# EAGLE library part WT21-N (library sf-bluegiga)
Class 1 Bluetooth HCI module - Bluetooth 2.1 + EDR, RF pins
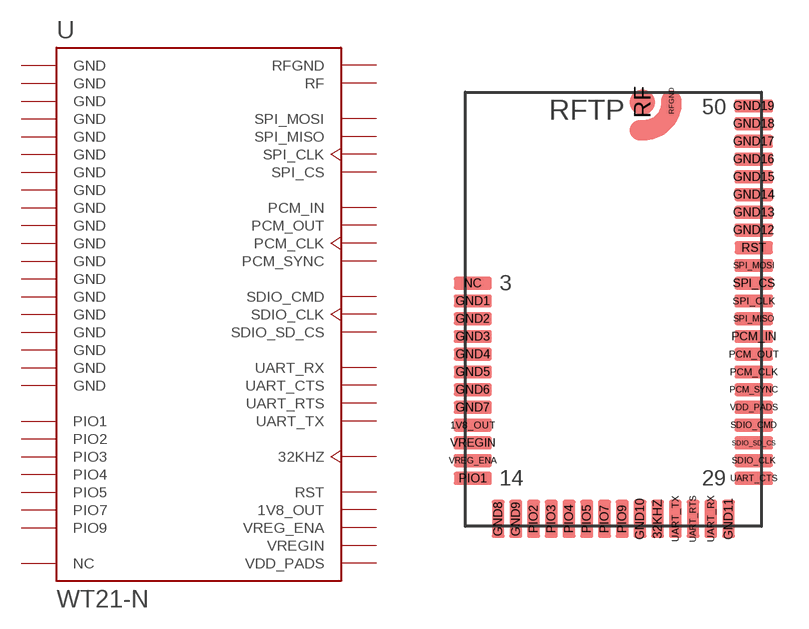
[diagram p4: symbol with the pads of WT21-N; footprint WT21-N]

Designator prefix U

## WT21-N  [WT21-N]
1V8_OUT  1V8_OUT  out
32KHZ  32KHZ  in
GND1  GND  pwr
GND2  GND  pwr
GND3  GND  pwr
GND4  GND  pwr
GND5  GND  pwr
GND6  GND  pwr
GND7  GND  pwr
GND8  GND  pwr
GND9  GND  pwr
GND10  GND  pwr
GND11  GND  pwr
GND12  GND  pwr
GND13  GND  pwr
GND14  GND  pwr
GND15  GND  pwr
GND16  GND  pwr
GND17  GND  pwr
GND18  GND  pwr
GND19  GND  pwr
NC  NC  nc
PCM_CLK  PCM_CLK
PCM_IN  PCM_IN  in
PCM_OUT  PCM_OUT  out
PCM_SYNC  PCM_SYNC
PIO1  PIO1  out
PIO2  PIO2  out
PIO3  PIO3  out
PIO4  PIO4  out
PIO5  PIO5  out
PIO7  PIO7  out
PIO9  PIO9  out
RF  RF
RFGND  RFGND
RST  RST  in
SDIO_CLK  SDIO_CLK
SDIO_CMD  SDIO_CMD  in
SDIO_SD_CS  SDIO_SD_CS  in
SPI_CLK  SPI_CLK
SPI_CS  SPI_CS  in
SPI_MISO  SPI_MISO  out
SPI_MOSI  SPI_MOSI  in
UART_CTS  UART_CTS  in
UART_RTS  UART_RTS  out
UART_RX  UART_RX  in
UART_TX  UART_TX  out
VDD_PADS  VDD_PADS  pwr
VREG_ENA  VREG_ENA  in
VREGIN  VREGIN  in

## Footprint WT21-N (pad centres in mm)
Class 1 Bluetooth HCI module - Bluetooth 2.1 + EDR, RF pins
smd 1.5 x 0.5: 1V8_OUT -5.55,-4.6; GND1 -5.55,0.3; GND2 -5.55,-0.4; GND3 -5.55,-1.1; GND4 -5.55,-1.8; GND5 -5.55,-2.5; GND6 -5.55,-3.2; GND7 -5.55,-3.9; GND12 5.55,3.1; GND13 5.55,3.8; GND14 5.55,4.5; GND15 5.55,5.2; GND16 5.55,5.9; GND17 5.55,6.6; GND18 5.55,7.3; GND19 5.55,8; NC -5.55,1; PCM_CLK 5.55,-2.5; PCM_IN 5.55,-1.1; PCM_OUT 5.55,-1.8; PCM_SYNC 5.55,-3.2; PIO1 -5.55,-6.7; RST 5.55,2.4; SDIO_CLK 5.55,-6; SDIO_CMD 5.55,-4.6; SDIO_SD_CS 5.55,-5.3; SPI_CLK 5.55,0.3; SPI_CS 5.55,1; SPI_MISO 5.55,-0.4; SPI_MOSI 5.55,1.7; UART_CTS 5.55,-6.7; VDD_PADS 5.55,-3.9; VREG_ENA -5.55,-6; VREGIN -5.55,-5.3
smd 0.5 x 1.5: 32KHZ 1.75,-8.3; GND8 -4.55,-8.3; GND9 -3.85,-8.3; GND10 1.05,-8.3; GND11 4.55,-8.3; PIO2 -3.15,-8.3; PIO3 -2.45,-8.3; PIO4 -1.75,-8.3; PIO5 -1.05,-8.3; PIO7 -0.35,-8.3; PIO9 0.35,-8.3; UART_RTS 3.15,-8.3; UART_RX 3.85,-8.3; UART_TX 2.45,-8.3
smd 1 x 1: RF 1.15,8.15
smd 0.8 x 0.8: RFGND 2.3,8.2